# EAGLE library part AMIS42665 (library amis42665)
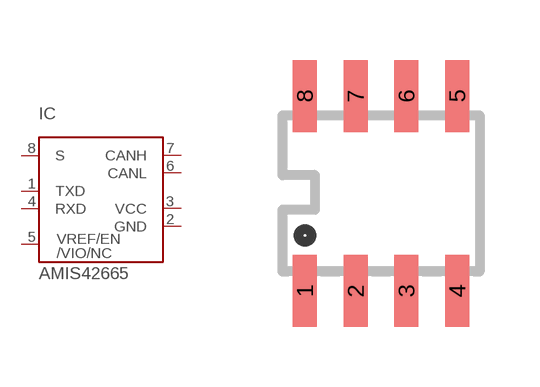
[diagram p0: symbol with the pads of SOIC; footprint SOIC]

Designator prefix IC

## AMIS42665  [SOIC]
1  TXD
2  GND  sup
3  VCC  sup
4  RXD
5  VREF/EN/VIO/NC
6  CANL
7  CANH
8  S

## Footprint SOIC (pad centres in mm)
smd 0.6 x 1.8: 1 -1.905,-2.44; 2 -0.635,-2.44; 3 0.635,-2.44; 4 1.905,-2.44; 5 1.905,2.44; 6 0.635,2.44; 7 -0.635,2.44; 8 -1.905,2.44